# Altium schematic symbol library STL100N10F7.Schlib: 1 symbol
Pins are listed as number, name and electrical type; pins without a type are passive.

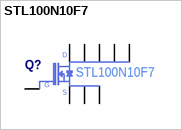
[diagram p0: symbol STL100N10F7]

## STL100N10F7
designator Q?
Manufacturer Part Number: STL100N10F7
pins: 1 S, 2 S, 3 S, 4 G, 5 D, 6 D, 7 D, 8 D, 9 D